# Altium footprint library PcbLib1.PcbLib: 27 footprints (part 1 of 2)
Each footprint in its own frame and in the unit in brackets; x right, y up, seen from the top. Pads: shape width x height; smd on the part's side, far side on the other; paste and mask are expansions set on the pad; w line width, h text height; cw(c..) or ccw(c..) is an arc to the next point about the centre after c.
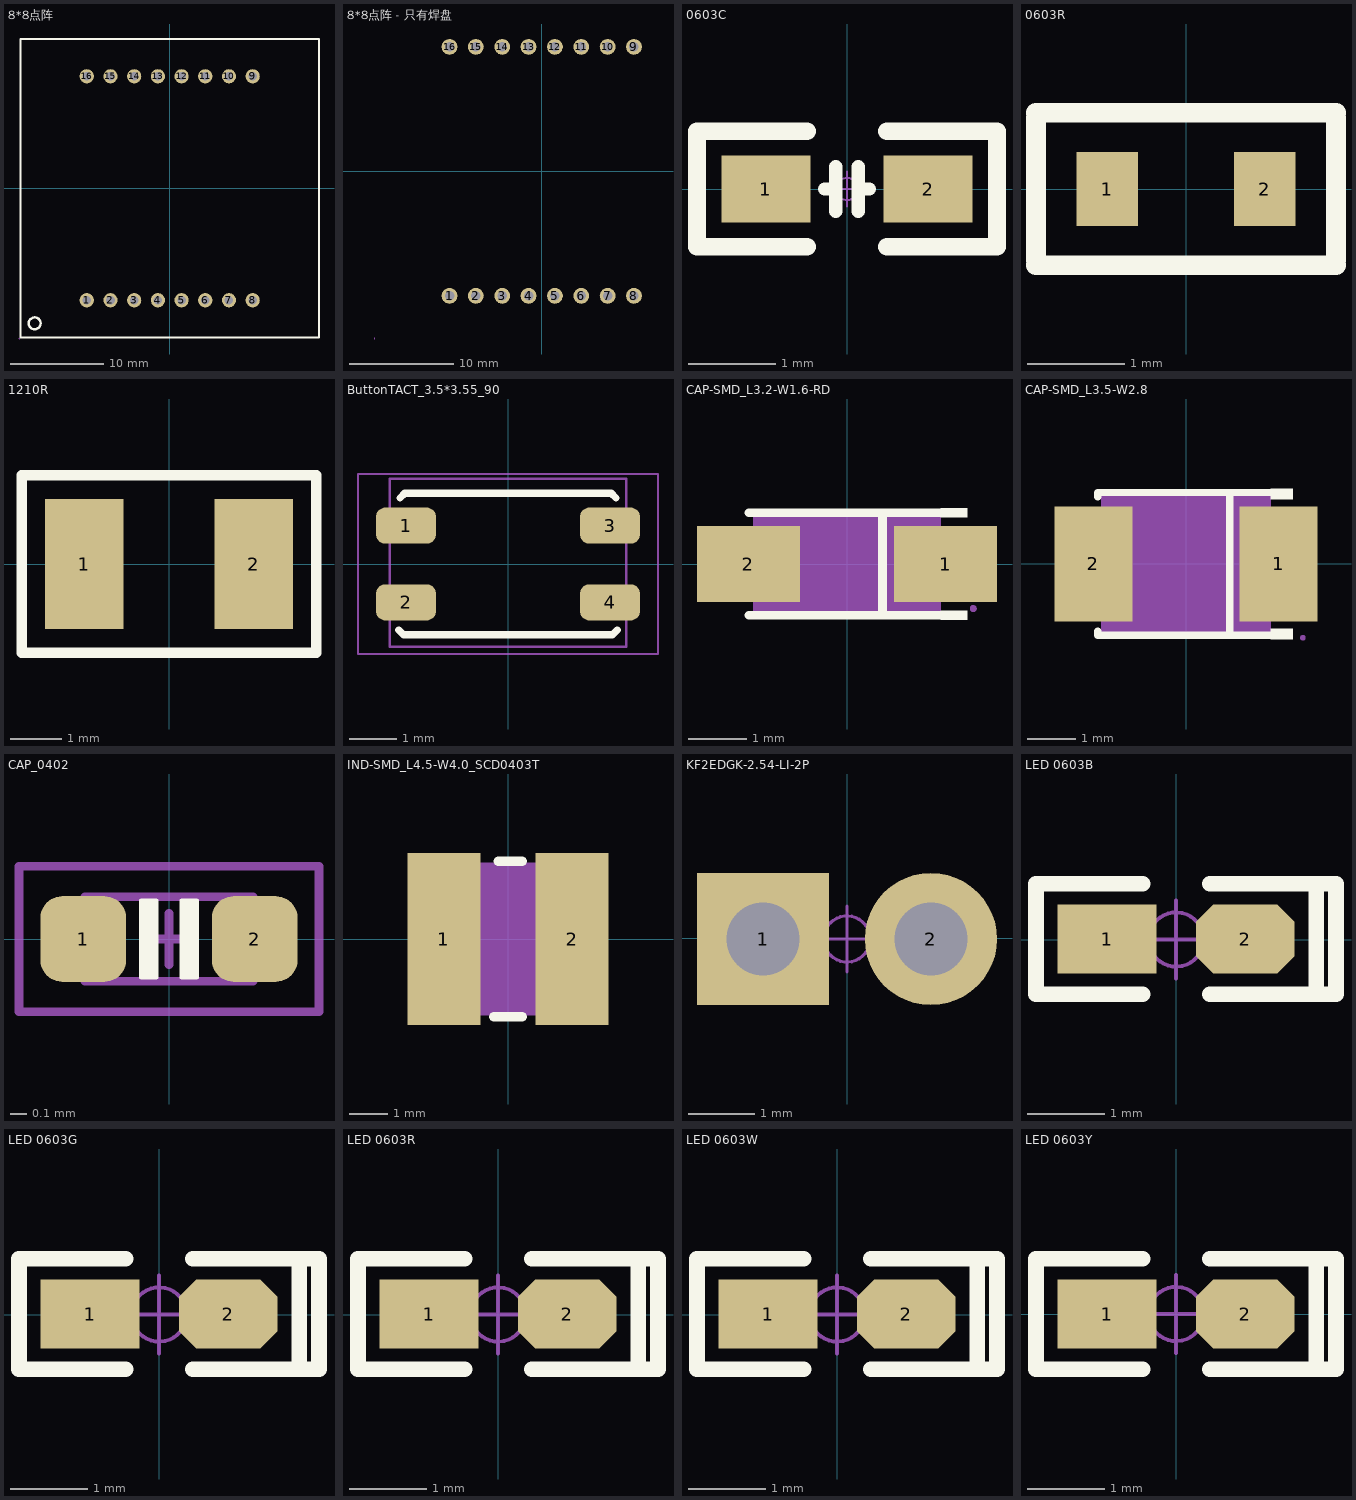
[diagram p0: the footprints below, top view; thin cyan lines are the x and y axes]

## 8*8点阵 [mil]
pads (16):
  round 60 hole 36: 1(-350,-472.44) 2(-250,-472.44) 3(-150,-472.44) 4(-50,-472.44) 5(50,-472.44) 6(150,-472.44) 7(250,-472.44) 8(350,-472.44) 9(350,472.44) 10(250,472.44) 11(150,472.44) 12(50,472.44) 13(-50,472.44) 14(-150,472.44) 15(-250,472.44) 16(-350,472.44)
Top Overlay:
  circle w10: c-570,-570 r25
  lines w10: -629.92,-629.92 629.92,-629.92 629.92,629.92 -629.92,629.92 -629.92,-629.92
Mechanical 5:
  circle w14.06: c350,472.44 r7.03
  circle w14.06: c250,472.44 r7.03
  circle w14.06: c150,472.44 r7.03
  circle w14.06: c50,472.44 r7.03
  circle w14.06: c-50,472.44 r7.03
  circle w14.06: c-150,472.44 r7.03
  circle w14.06: c-250,472.44 r7.03
  circle w14.06: c-350,472.44 r7.03
  circle w14.06: c-350,-472.44 r7.03
  circle w14.06: c350,-472.44 r7.03
  circle w14.06: c250,-472.44 r7.03
  circle w14.06: c150,-472.44 r7.03
  circle w14.06: c50,-472.44 r7.03
  circle w14.06: c-50,-472.44 r7.03
  circle w14.06: c-150,-472.44 r7.03
  circle w14.06: c-250,-472.44 r7.03
Mechanical 6:
  circle w2.36: c-634.92,-634.92 r1.18

## 8*8点阵 - 只有焊盘 [mil]
pads (16):
  round 60 hole 36: 1(-350,-472.44) 2(-250,-472.44) 3(-150,-472.44) 4(-50,-472.44) 5(50,-472.44) 6(150,-472.44) 7(250,-472.44) 8(350,-472.44) 9(350,472.44) 10(250,472.44) 11(150,472.44) 12(50,472.44) 13(-50,472.44) 14(-150,472.44) 15(-250,472.44) 16(-350,472.44)
Mechanical 5:
  circle w14.06: c350,472.44 r7.03
  circle w14.06: c250,472.44 r7.03
  circle w14.06: c150,472.44 r7.03
  circle w14.06: c50,472.44 r7.03
  circle w14.06: c-50,472.44 r7.03
  circle w14.06: c-150,472.44 r7.03
  circle w14.06: c-250,472.44 r7.03
  circle w14.06: c-350,472.44 r7.03
  circle w14.06: c-350,-472.44 r7.03
  circle w14.06: c350,-472.44 r7.03
  circle w14.06: c250,-472.44 r7.03
  circle w14.06: c150,-472.44 r7.03
  circle w14.06: c50,-472.44 r7.03
  circle w14.06: c-50,-472.44 r7.03
  circle w14.06: c-150,-472.44 r7.03
  circle w14.06: c-250,-472.44 r7.03
Mechanical 6:
  circle w2.36: c-634.92,-634.92 r1.18

## 0603C [mil] "无极性贴片电容"
height 19.68
pads (2):
  rect 40x30 smd: 1(-36.5,0) 2(36.5,0)
Top Overlay:
  lines w6: -10,0 -5,0 ; -5,-10 -5,10 ; 5,-10 5,10 ; 5,0 10,0
  lines w8: -18,-26 -67.5,-26 -67.5,26 -18,26 ; 18,-26 67.5,-26 67.5,26 18,26
Mechanical 15:
  circle w1: c0,0 r5
  lines w1: -7.87,0 7.87,0 ; 0,-7.87 0,7.87
3D body "C 0603.STEP": height 31.89, standoff -0.39, extent -31.5,-16.14 31.5,16.14

## 0603R [mil]
pads (2):
  rect 25x30 smd: 1(-32,0) 2(32,0)
Top Overlay:
  lines w8: -61,-31 13,-31 61,-31 ; -61,-29 -61,29 ; -61,31 13,31 61,31 ; 61,-29 61,29
3D body "R0603.STEP": height 17.72, standoff 0, extent -32.49,-15.74 30.5,15.75

## 1210R [mil]
pads (2):
  rect 60x100 smd: 1(-65,0) 2(65,0)
Top Overlay:
  lines w8: -113,-68 -113,68 40,68 113,68 113,-68 40,-68 -113,-68
3D body "RESC3225(1210).STEP": height 23.62, standoff 0, extent -62.99,-50.21 63,48.22

## ButtonTACT_3.5*3.55_90 [mil]
height 169.29
pads (4):
  rrect50% 50x30 smd: 1(-85,32) 2(-85,-32) 3(85,32) 4(85,-32)
Top Overlay:
  lines w6: -91,-55 -87,-59 87,-59 91,-55 ; -90,55 -85.98,59 86,59 90,55
Mechanical 13:
  lines w2: -98.43,-68.9 -98.43,71 98.43,71 98.43,-68.9 -98.43,-68.9
Mechanical 14:
  lines w2: -125,-75 -125,75 125,75 125,-75 -125,-75
3D body "User Library-KMS231G.STEP": height 55.91, standoff -0.77, extent -100.55,-65 80.55,74.76

## CAP-SMD_L3.2-W1.6-RD [mm]
pads (2):
  rect 1.758x1.296 smd: 1(1.686,0) 2(-1.686,0)
Top Overlay:
  region: 1.6,-0.952 1.6,-0.8 2.057,-0.8 2.057,-0.952
  region: 1.6,0.952 1.6,0.8 2.057,0.8 2.057,0.952
  lines w0.152: -1.676,-0.876 1.676,-0.876 ; -1.676,0.876 1.676,0.876 ; 0.604,-0.876 0.604,0.876
Mechanical 4:
  region: -1.6,-0.8 -1.6,0.8 1.6,0.8 1.6,-0.8
Mechanical 5:
  region: 1.83,-0.6 1.83,0.6 0.98,0.6 0.98,-0.6
  region: -1.83,-0.6 -1.83,0.6 -0.98,0.6 -0.98,-0.6
Mechanical 6:
  circle w0.06: c2.159,-0.762 r0.03
Mechanical 15:
  region: 1.6,0.8 1.6,0.4 1.36,0.4 1.36,0.8
  region: 1.6,-0.8 1.6,-0.4 1.36,-0.4 1.36,-0.8
  region: 1.3,-0.4 1.3,0.4 1.18,0.4 1.18,-0.4
  region: 1.48,-0.06 1.48,0.06 1,0.06 1,-0.06
  region: -1.48,-0.06 -1.48,0.06 -1,0.06 -1,-0.06

## CAP-SMD_L3.5-W2.8 [mm]
pads (2):
  rect 1.607x2.376 smd: 1(1.911,0) 2(-1.911,0)
Top Overlay:
  region: 1.75,1.552 1.75,1.34 2.207,1.34 2.207,1.552
  region: 1.75,-1.552 1.75,-1.34 2.207,-1.34 2.207,-1.552
  lines w0.152: -1.826,-1.391 -1.826,-1.476 1.826,-1.476 ; -1.826,1.391 -1.826,1.476 1.826,1.476 ; 0.904,-1.476 0.904,1.476
Mechanical 4:
  region: -1.75,-1.4 -1.75,1.4 1.75,1.4 1.75,-1.4
Mechanical 5:
  region: -1.98,-1.1 -1.98,1.1 -1.28,1.1 -1.28,-1.1
  region: 1.98,-1.1 1.98,1.1 1.28,1.1 1.28,-1.1
Mechanical 6:
  circle w0.06: c2.413,-1.524 r0.03
Mechanical 15:
  region: -1.54,-0.105 -1.54,0.105 -0.7,0.105 -0.7,-0.105
  region: 1.54,-0.105 1.54,0.105 0.7,0.105 0.7,-0.105
  region: 1.225,-0.7 1.225,0.7 1.015,0.7 1.015,-0.7
  region: 1.75,-1.4 1.75,-0.7 1.33,-0.7 1.33,-1.4
  region: 1.75,1.4 1.75,0.7 1.33,0.7 1.33,1.4

## CAP_0402 [mil]
height 21.65
pads (2):
  rrect50% 20x20 smd: 1(-20,0) 2(20,0)
Top Overlay:
  region: 6.5,-9 3,-9 3,9 6.5,9
  region: -6.5,9 -3,9 -3,-9 -6.5,-9
  lines w1: -6.5,-9 -6.5,9 -3,9 -3,-9 -6.5,-9 ; 3,-9 6.5,-9 6.5,9 3,9 3,-9
Mechanical 13:
  lines w2: -6,0 6,0 ; 0,-6 0,6 ; -19.69,-9.84 19.68,-9.84 19.68,9.84 -19.69,9.84 -19.69,-9.84
Mechanical 14:
  lines w2: -35,-17 35,-17 35,17 -35,17 -35,-17
3D body "CAPC1005X05L.step": height 19.68, standoff 0, extent -19.68,-9.84 19.69,9.85

## IND-SMD_L4.5-W4.0_SCD0403T [mm]
pads (2):
  rect 1.9x4.5 smd: 1(-1.675,0) 2(1.675,0)
Top Overlay:
  lines w0.254: -0.369,-2.032 0.369,-2.032 ; -0.254,2.032 0.369,2.032
Mechanical 4:
  region: -2.25,2 2.25,2 2.25,-2 -2.25,-2
Mechanical 5:
  region: -0.675,2 -0.675,-2 -2.25,-2 -2.25,2
  region: 0.675,-2 0.675,2 2.25,2 2.25,-2
Mechanical 6:
  circle w0.06: c-2.22,-1.97 r0.03

## KF2EDGK-2.54-LI-2P [mm] "长：6.93mm，宽：8.1mm，高：10.1mm"
pads (2):
  rect 2x2 hole 1.1: 1(-1.27,-0.009)
  round 2 hole 1.1: 2(1.27,-0.009)
Mechanical 15:
  circle w0.05: c0,-0.009 r0.35
  lines w0.05: -0.5,-0.009 0.5,-0.009 ; 0,-0.509 0,0.491

## LED 0603B [mil] "蓝色0603LED"
pads (2):
  rect 50x35 smd: 1(-35,0.26)
  oct 50x35 smd: 2(35,0.26)
Top Overlay:
  lines w8: -17,-27.74 -71,-27.74 -71,-25.74 -71,28.26 -70,28.26 -17,28.26 ; 17,-27.74 70,-27.74 ; 17,28.26 71,28.26 81,28.26 81,-27.74 71,-27.74 71,26.26
Mechanical 15:
  circle w1.97: c0,0 r13.78
  lines w1.97: -19.68,0 19.68,0 ; 0,-19.68 0,19.68
3D body "LED 0603玻璃罩.STEP": height 23.82, standoff 8.07, extent -23.58,-15.79 23.58,15.79
3D body "LED 0603-B.STEP": height 18.36, standoff -0.16, extent -31.49,-15.79 31.5,15.79

## LED 0603G [mil] "绿色0603LED"
pads (2):
  rect 50x35 smd: 1(-35,0.26)
  oct 50x35 smd: 2(35,0.26)
Top Overlay:
  lines w8: -17,-27.74 -71,-27.74 -71,-25.74 -71,28.26 -70,28.26 -17,28.26 ; 17,-27.74 70,-27.74 ; 17,28.26 71,28.26 81,28.26 81,-27.74 71,-27.74 71,26.26
Mechanical 15:
  circle w1.97: c0,0 r13.78
  lines w1.97: -19.68,0 19.68,0 ; 0,-19.68 0,19.68
3D body "LED 0603玻璃罩.": height 0, standoff 0, extent 0,0 0,0
3D body "LED 0603-G.STEP": height 18.36, standoff -0.16, extent -31.49,-15.79 31.5,15.79

## LED 0603R [mil] "红色0603LED"
pads (2):
  rect 50x35 smd: 1(-35,0.26)
  oct 50x35 smd: 2(35,0.26)
Top Overlay:
  lines w8: -17,-27.74 -71,-27.74 -71,-25.74 -71,28.26 -70,28.26 -17,28.26 ; 17,-27.74 70,-27.74 ; 17,28.26 71,28.26 81,28.26 81,-27.74 71,-27.74 71,26.26
Mechanical 15:
  circle w1.97: c0,0 r13.78
  lines w1.97: -19.68,0 19.68,0 ; 0,-19.68 0,19.68
3D body "LED 0603-R.STEP": height 18.36, standoff -0.16, extent -31.5,-15.79 31.5,15.79
3D body "LED 0603玻璃罩.": height 0, standoff 0, extent 0,0 0,0

## LED 0603W [mil] "白色0603LED"
pads (2):
  rect 50x35 smd: 1(-35,0.26)
  oct 50x35 smd: 2(35,0.26)
Top Overlay:
  lines w8: -17,-27.74 -71,-27.74 -71,-25.74 -71,28.26 -70,28.26 -17,28.26 ; 17,-27.74 70,-27.74 ; 17,28.26 71,28.26 81,28.26 81,-27.74 71,-27.74 71,26.26
Mechanical 15:
  circle w1.97: c0,0 r13.78
  lines w1.97: -19.68,0 19.68,0 ; 0,-19.68 0,19.68
3D body "LED 0603-W.STEP": height 18.36, standoff -0.16, extent -31.49,-15.79 31.5,15.79
3D body "LED 0603玻璃罩.": height 0, standoff 0, extent 0,0 0,0

## LED 0603Y [mil] "黄色0603LED"
pads (2):
  rect 50x35 smd: 1(-35,0)
  oct 50x35 smd: 2(35,0)
Top Overlay:
  lines w8: -17,-28 -71,-28 -71,-26 -71,28 -70,28 -17,28 ; 17,-28 70,-28 ; 17,28 71,28 81,28 81,-28 71,-28 71,26
Mechanical 15:
  circle w1.97: c0,0 r13.78
  lines w1.97: -19.68,0 19.68,0 ; 0,-19.68 0,19.68
3D body "LED 0603-Y.STEP": height 18.36, standoff -0.16, extent -31.5,-16.04 31.49,15.53
3D body "LED 0603玻璃罩.": height 0, standoff 0, extent 0,0 0,0